# Altium schematic symbol library Pin Header WR-PHD_2.00 mm.SchLib: 63 symbols
Pins are listed as number, name and electrical type; pins without a type are passive.

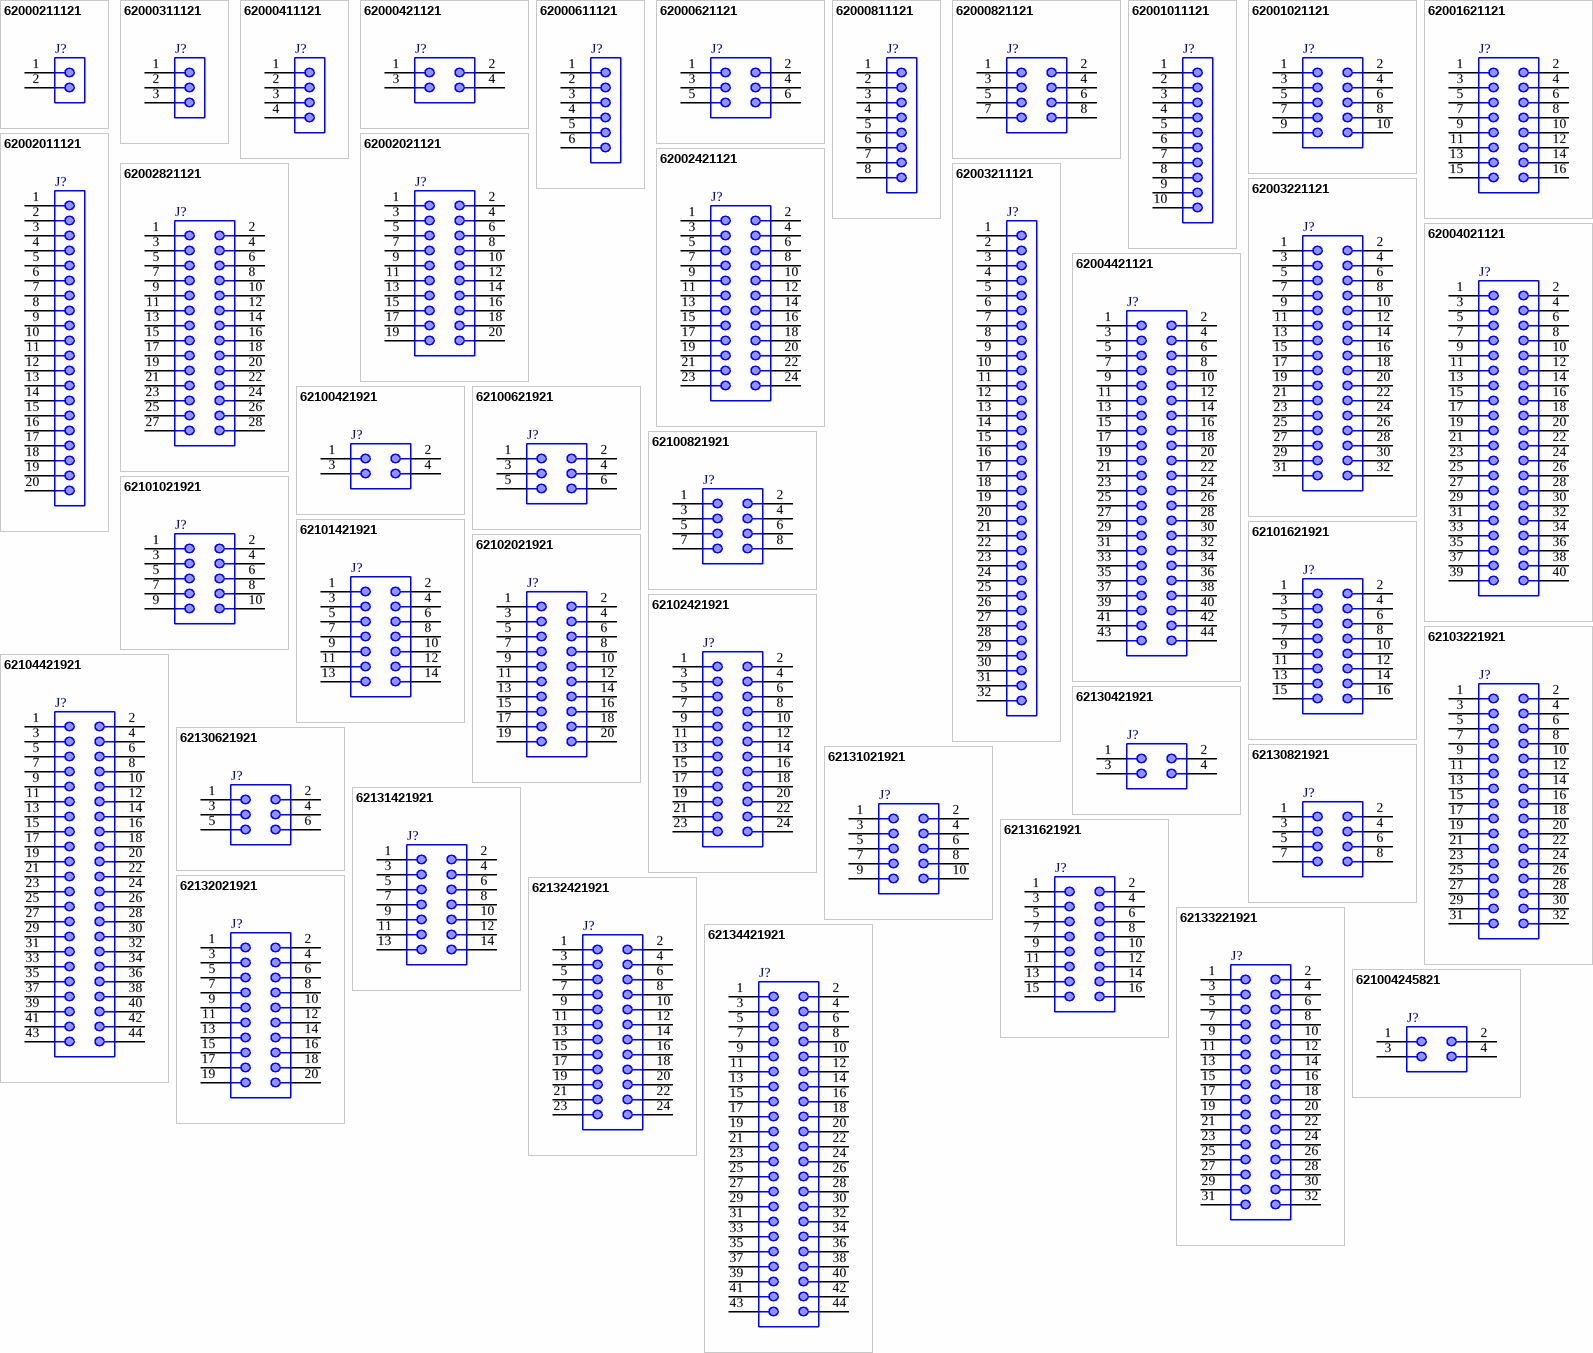
[diagram p0: symbols 62000211121 to 621004245821]

## 62000211121
designator J?
THT Vertical Pin Header WR-PHD, Pitch 2.00 mm, Single Row, 2 pins; Part Number: 62000211121; Pin Number: 2; Pitch: 2.00 mm; Gender: Male; Rated Current: 2 A; Working Voltage: 200 VAC; Withstanding Voltage: 500 VAC; Contact Resistance: 20 mOhm; ComponentLink1Description: Manufacturer; ComponentLink1URL: http://www.we-online.de; ComponentLink2Description: Datasheet; ComponentLink2URL: https://katalog.we-online.de/em/datasheet/62000211121.pdf; Published Date: August 2018; Publisher: Wurth Elektronik; Operating Temperature: -40 to 105 degC; Mounting Technology: THT; Packaging: Bag; Row Number: Single; Orientation: Vertical
footprint 62000211121
pins: 1, 2

## 62000311121
designator J?
THT Vertical Pin Header WR-PHD, Pitch 2.00 mm, Single Row, 3 pins; Part Number: 62000311121; Pin Number: 3; Pitch: 2.00 mm; Gender: Male; Rated Current: 2 A; Working Voltage: 200 VAC; Withstanding Voltage: 500 VAC; Contact Resistance: 20 mOhm; ComponentLink1Description: Manufacturer; ComponentLink1URL: http://www.we-online.de; ComponentLink2Description: Datasheet; ComponentLink2URL: https://katalog.we-online.de/em/datasheet/62000311121.pdf; Published Date: August 2018; Publisher: Wurth Elektronik; Operating Temperature: -40 to 105 degC; Mounting Technology: THT; Packaging: Bag; Row Number: Single; Orientation: Vertical
footprint 62000311121
pins: 1, 2, 3

## 62000411121
designator J?
THT Vertical Pin Header WR-PHD, Pitch 2.00 mm, Single Row, 4 pins; Part Number: 62000411121; Pin Number: 4; Pitch: 2.00 mm; Gender: Male; Rated Current: 2 A; Working Voltage: 200 VAC; Withstanding Voltage: 500 VAC; Contact Resistance: 20 mOhm; ComponentLink1Description: Manufacturer; ComponentLink1URL: http://www.we-online.de; ComponentLink2Description: Datasheet; ComponentLink2URL: https://katalog.we-online.de/em/datasheet/62000411121.pdf; Published Date: August 2018; Publisher: Wurth Elektronik; Operating Temperature: -40 to 105 degC; Mounting Technology: THT; Packaging: Bag; Row Number: Single; Orientation: Vertical
footprint 62000411121
pins: 1, 2, 3, 4

## 62000421121
designator J?
THT Vertical Pin Header WR-PHD, Pitch 2.00 mm, Dual Row, 4 pins; Part Number: 62000421121; Pin Number: 4; Pitch: 2.00 mm; Gender: Male; Rated Current: 2 A; Working Voltage: 200 VAC; Withstanding Voltage: 500 VAC; Contact Resistance: 20 mOhm; ComponentLink1Description: Manufacturer; ComponentLink1URL: http://www.we-online.de; ComponentLink2Description: Datasheet; ComponentLink2URL: https://katalog.we-online.de/em/datasheet/62000421121.pdf; Published Date: August 2018; Publisher: Wurth Elektronik; Operating Temperature: -40 to 105 degC; Mounting Technology: THT; Packaging: Bag; Row Number: Dual; Orientation: Vertical
footprint 62000421121
pins: 1, 2, 3, 4

## 62000611121
designator J?
THT Vertical Pin Header WR-PHD, Pitch 2.00 mm, Single Row, 6 pins; Part Number: 62000611121; Pin Number: 6; Pitch: 2.00 mm; Gender: Male; Rated Current: 2 A; Working Voltage: 200 VAC; Withstanding Voltage: 500 VAC; Contact Resistance: 20 mOhm; ComponentLink1Description: Manufacturer; ComponentLink1URL: http://www.we-online.de; ComponentLink2Description: Datasheet; ComponentLink2URL: https://katalog.we-online.de/em/datasheet/62000611121.pdf; Published Date: August 2018; Publisher: Wurth Elektronik; Operating Temperature: -40 to 105 degC; Mounting Technology: THT; Packaging: Bag; Row Number: Single; Orientation: Vertical
footprint 62000611121
pins: 1, 2, 3, 4, 5, 6

## 62000621121
designator J?
THT Vertical Pin Header WR-PHD, Pitch 2.00 mm, Dual Row, 6 pins; Part Number: 62000621121; Pin Number: 6; Pitch: 2.00 mm; Gender: Male; Rated Current: 2 A; Working Voltage: 200 VAC; Withstanding Voltage: 500 VAC; Contact Resistance: 20 mOhm; ComponentLink1Description: Manufacturer; ComponentLink1URL: http://www.we-online.de; ComponentLink2Description: Datasheet; ComponentLink2URL: https://katalog.we-online.de/em/datasheet/62000621121.pdf; Published Date: August 2018; Publisher: Wurth Elektronik; Operating Temperature: -40 to 105 degC; Mounting Technology: THT; Packaging: Bag; Row Number: Dual; Orientation: Vertical
footprint 62000621121
pins: 1, 2, 3, 4, 5, 6

## 62000811121
designator J?
THT Vertical Pin Header WR-PHD, Pitch 2.00 mm, Single Row, 8 pins; Part Number: 62000811121; Pin Number: 8; Pitch: 2.00 mm; Gender: Male; Rated Current: 2 A; Working Voltage: 200 VAC; Withstanding Voltage: 500 VAC; Contact Resistance: 20 mOhm; ComponentLink1Description: Manufacturer; ComponentLink1URL: http://www.we-online.de; ComponentLink2Description: Datasheet; ComponentLink2URL: https://katalog.we-online.de/em/datasheet/62000811121.pdf; Published Date: August 2018; Publisher: Wurth Elektronik; Operating Temperature: -40 to 105 degC; Mounting Technology: THT; Packaging: Bag; Row Number: Single; Orientation: Vertical
footprint 62000811121
pins: 1, 2, 3, 4, 5, 6, 7, 8

## 62000821121
designator J?
THT Vertical Pin Header WR-PHD, Pitch 2.00 mm, Dual Row, 8 pins; Part Number: 62000821121; Pin Number: 8; Pitch: 2.00 mm; Gender: Male; Rated Current: 2 A; Working Voltage: 200 VAC; Withstanding Voltage: 500 VAC; Contact Resistance: 20 mOhm; ComponentLink1Description: Manufacturer; ComponentLink1URL: http://www.we-online.de; ComponentLink2Description: Datasheet; ComponentLink2URL: https://katalog.we-online.de/em/datasheet/62000821121.pdf; Published Date: August 2018; Publisher: Wurth Elektronik; Operating Temperature: -40 to 105 degC; Mounting Technology: THT; Packaging: Bag; Row Number: Dual; Orientation: Vertical
footprint 62000821121
pins: 1, 2, 3, 4, 5, 6, 7, 8

## 62001011121
designator J?
THT Vertical Pin Header WR-PHD, Pitch 2.00 mm, Single Row, 10 pins; Part Number: 62001011121; Pin Number: 10; Pitch: 2.00 mm; Gender: Male; Rated Current: 2 A; Working Voltage: 200 VAC; Withstanding Voltage: 500 VAC; Contact Resistance: 20 mOhm; ComponentLink1Description: Manufacturer; ComponentLink1URL: http://www.we-online.de; ComponentLink2Description: Datasheet; ComponentLink2URL: https://katalog.we-online.de/em/datasheet/62001011121.pdf; Published Date: August 2018; Publisher: Wurth Elektronik; Operating Temperature: -40 to 105 degC; Mounting Technology: THT; Packaging: Bag; Row Number: Single; Orientation: Vertical
footprint 62001011121
pins: 1, 2, 3, 4, 5, 6, 7, 8, 9, 10

## 62001021121
designator J?
THT Vertical Pin Header WR-PHD, Pitch 2.00 mm, Dual Row, 10 pins; Part Number: 62001021121; Pin Number: 10; Pitch: 2.00 mm; Gender: Male; Rated Current: 2 A; Working Voltage: 200 VAC; Withstanding Voltage: 500 VAC; Contact Resistance: 20 mOhm; ComponentLink1Description: Manufacturer; ComponentLink1URL: http://www.we-online.de; ComponentLink2Description: Datasheet; ComponentLink2URL: https://katalog.we-online.de/em/datasheet/62001021121.pdf; Published Date: August 2018; Publisher: Wurth Elektronik; Operating Temperature: -40 to 105 degC; Mounting Technology: THT; Packaging: Bag; Row Number: Dual; Orientation: Vertical
footprint 62001021121
pins: 1, 2, 3, 4, 5, 6, 7, 8, 9, 10

## 62001621121
designator J?
THT Vertical Pin Header WR-PHD, Pitch 2.00 mm, Dual Row, 16 pins; Part Number: 62001621121; Pin Number: 16; Pitch: 2.00 mm; Gender: Male; Rated Current: 2 A; Working Voltage: 200 VAC; Withstanding Voltage: 500 VAC; Contact Resistance: 20 mOhm; ComponentLink1Description: Manufacturer; ComponentLink1URL: http://www.we-online.de; ComponentLink2Description: Datasheet; ComponentLink2URL: https://katalog.we-online.de/em/datasheet/62001621121.pdf; Published Date: August 2018; Publisher: Wurth Elektronik; Operating Temperature: -40 to 105 degC; Mounting Technology: THT; Packaging: Bag; Row Number: Dual; Orientation: Vertical
footprint 62001621121
pins: 1, 2, 3, 4, 5, 6, 7, 8, 9, 10, 11, 12, 13, 14, 15, 16

## 62002011121
designator J?
THT Vertical Pin Header WR-PHD, Pitch 2.00 mm, Single Row, 20 pins; Part Number: 62002011121; Pin Number: 20; Pitch: 2.00 mm; Gender: Male; Rated Current: 2 A; Working Voltage: 200 VAC; Withstanding Voltage: 500 VAC; Contact Resistance: 20 mOhm; ComponentLink1Description: Manufacturer; ComponentLink1URL: http://www.we-online.de; ComponentLink2Description: Datasheet; ComponentLink2URL: https://katalog.we-online.de/em/datasheet/62002011121.pdf; Published Date: August 2018; Publisher: Wurth Elektronik; Operating Temperature: -40 to 105 degC; Mounting Technology: THT; Packaging: Bag; Row Number: Single; Orientation: Vertical
footprint 62002011121
pins: 1, 2, 3, 4, 5, 6, 7, 8, 9, 10, 11, 12, 13, 14, 15, 16, 17, 18, 19, 20

## 62002021121
designator J?
THT Vertical Pin Header WR-PHD, Pitch 2.00 mm, Dual Row, 20 pins; Part Number: 62002021121; Pin Number: 20; Pitch: 2.00 mm; Gender: Male; Rated Current: 2 A; Working Voltage: 200 VAC; Withstanding Voltage: 500 VAC; Contact Resistance: 20 mOhm; ComponentLink1Description: Manufacturer; ComponentLink1URL: http://www.we-online.de; ComponentLink2Description: Datasheet; ComponentLink2URL: https://katalog.we-online.de/em/datasheet/62002021121.pdf; Published Date: August 2018; Publisher: Wurth Elektronik; Operating Temperature: -40 to 105 degC; Mounting Technology: THT; Packaging: Bag; Row Number: Dual; Orientation: Vertical
footprint 62002021121
pins: 1, 2, 3, 4, 5, 6, 7, 8, 9, 10, 11, 12, 13, 14, 15, 16, 17, 18, 19, 20

## 62002421121
designator J?
THT Vertical Pin Header WR-PHD, Pitch 2.00 mm, Dual Row, 24 pins; Part Number: 62002421121; Pin Number: 24; Pitch: 2.00 mm; Gender: Male; Rated Current: 2 A; Working Voltage: 200 VAC; Withstanding Voltage: 500 VAC; Contact Resistance: 20 mOhm; ComponentLink1Description: Manufacturer; ComponentLink1URL: http://www.we-online.de; ComponentLink2Description: Datasheet; ComponentLink2URL: https://katalog.we-online.de/em/datasheet/62002421121.pdf; Published Date: August 2018; Publisher: Wurth Elektronik; Operating Temperature: -40 to 105 degC; Mounting Technology: THT; Packaging: Bag; Row Number: Dual; Orientation: Vertical
footprint 62002421121
pins: 1, 2, 3, 4, 5, 6, 7, 8, 9, 10, 11, 12, 13, 14, 15, 16, 17, 18, 19, 20, 21, 22, 23, 24

## 62002821121
designator J?
THT Vertical Pin Header WR-PHD, Pitch 2.00 mm, Dual Row, 28 pins; Part Number: 62002821121; Pin Number: 28; Pitch: 2.00 mm; Gender: Male; Rated Current: 2 A; Working Voltage: 200 VAC; Withstanding Voltage: 500 VAC; Contact Resistance: 20 mOhm; ComponentLink1Description: Manufacturer; ComponentLink1URL: http://www.we-online.de; ComponentLink2Description: Datasheet; ComponentLink2URL: https://katalog.we-online.de/em/datasheet/62002821121.pdf; Published Date: August 2018; Publisher: Wurth Elektronik; Operating Temperature: -40 to 105 degC; Mounting Technology: THT; Packaging: Bag; Row Number: Dual; Orientation: Vertical
footprint 62002821121
pins: 1, 2, 3, 4, 5, 6, 7, 8, 9, 10, 11, 12, 13, 14, 15, 16, 17, 18, 19, 20, 21, 22, 23, 24, 25, 26, 27, 28

## 62003211121
designator J?
THT Vertical Pin Header WR-PHD, Pitch 2.00 mm, Single Row, 32 pins; Part Number: 62003211121; Pin Number: 32; Pitch: 2.00 mm; Gender: Male; Rated Current: 2 A; Working Voltage: 200 VAC; Withstanding Voltage: 500 VAC; Contact Resistance: 20 mOhm; ComponentLink1Description: Manufacturer; ComponentLink1URL: http://www.we-online.de; ComponentLink2Description: Datasheet; ComponentLink2URL: https://katalog.we-online.de/em/datasheet/62003211121.pdf; Published Date: August 2018; Publisher: Wurth Elektronik; Operating Temperature: -40 to 105 degC; Mounting Technology: THT; Packaging: Bag; Row Number: Single; Orientation: Vertical
footprint 62003211121
pins: 1, 2, 3, 4, 5, 6, 7, 8, 9, 10, 11, 12, 13, 14, 15, 16, 17, 18, 19, 20, 21, 22, 23, 24, 25, 26, 27, 28, 29, 30, 31, 32

## 62003221121
designator J?
THT Vertical Pin Header WR-PHD, Pitch 2.00 mm, Dual Row, 32 pins; Part Number: 62003221121; Pin Number: 32; Pitch: 2.00 mm; Gender: Male; Rated Current: 2 A; Working Voltage: 200 VAC; Withstanding Voltage: 500 VAC; Contact Resistance: 20 mOhm; ComponentLink1Description: Manufacturer; ComponentLink1URL: http://www.we-online.de; ComponentLink2Description: Datasheet; ComponentLink2URL: https://katalog.we-online.de/em/datasheet/62003221121.pdf; Published Date: August 2018; Publisher: Wurth Elektronik; Operating Temperature: -40 to 105 degC; Mounting Technology: THT; Packaging: Bag; Row Number: Dual; Orientation: Vertical
footprint 62003221121
pins: 1, 2, 3, 4, 5, 6, 7, 8, 9, 10, 11, 12, 13, 14, 15, 16, 17, 18, 19, 20, 21, 22, 23, 24, 25, 26, 27, 28, 29, 30, 31, 32

## 62004021121
designator J?
THT Vertical Pin Header WR-PHD, Pitch 2.00 mm, Dual Row, 40 pins; Part Number: 62004021121; Pin Number: 40; Pitch: 2.00 mm; Gender: Male; Rated Current: 2 A; Working Voltage: 200 VAC; Withstanding Voltage: 500 VAC; Contact Resistance: 20 mOhm; ComponentLink1Description: Manufacturer; ComponentLink1URL: http://www.we-online.de; ComponentLink2Description: Datasheet; ComponentLink2URL: https://katalog.we-online.de/em/datasheet/62004021121.pdf; Published Date: August 2018; Publisher: Wurth Elektronik; Operating Temperature: -40 to 105 degC; Mounting Technology: THT; Packaging: Bag; Row Number: Dual; Orientation: Vertical
footprint 62004021121
pins: 1, 2, 3, 4, 5, 6, 7, 8, 9, 10, 11, 12, 13, 14, 15, 16, 17, 18, 19, 20, 21, 22, 23, 24, 25, 26, 27, 28, 29, 30, 31, 32, 33, 34, 35, 36, 37, 38, 39, 40

## 62004421121
designator J?
THT Vertical Pin Header WR-PHD, Pitch 2.00 mm, Dual Row, 44 pins; Part Number: 62004421121; Pin Number: 44; Pitch: 2.00 mm; Gender: Male; Rated Current: 2 A; Working Voltage: 200 VAC; Withstanding Voltage: 500 VAC; Contact Resistance: 20 mOhm; ComponentLink1Description: Manufacturer; ComponentLink1URL: http://www.we-online.de; ComponentLink2Description: Datasheet; ComponentLink2URL: https://katalog.we-online.de/em/datasheet/62004421121.pdf; Published Date: August 2018; Publisher: Wurth Elektronik; Operating Temperature: -40 to 105 degC; Mounting Technology: THT; Packaging: Bag; Row Number: Dual; Orientation: Vertical
footprint 62004421121
pins: 1, 2, 3, 4, 5, 6, 7, 8, 9, 10, 11, 12, 13, 14, 15, 16, 17, 18, 19, 20, 21, 22, 23, 24, 25, 26, 27, 28, 29, 30, 31, 32, 33, 34, 35, 36, 37, 38, 39, 40, 41, 42, 43, 44

## 62100421921
designator J?
SMT Vertical Pin Header WR-PHD, Pitch 2.00 mm, Dual Row, 4 pins; Part Number: 62100421921; Pin Number: 4; Pitch: 2.00 mm; Gender: Male; Rated Current: 2 A; Working Voltage: 200 VAC; Withstanding Voltage: 500 VAC; Contact Resistance: 20 mOhm; ComponentLink1Description: Manufacturer; ComponentLink1URL: http://www.we-online.de; ComponentLink2Description: Datasheet; ComponentLink2URL: https://katalog.we-online.de/em/datasheet/62100421921.pdf; Published Date: August 2018; Publisher: Wurth Elektronik; Operating Temperature: -40 to 105 degC; Mounting Technology: SMT; Packaging: Tube; Row Number: Dual; Orientation: Vertical
footprint 62100421921
pins: 1, 2, 3, 4

## 62100621921
designator J?
SMT Vertical Pin Header WR-PHD, Pitch 2.00 mm, Dual Row, 6 pins; Part Number: 62100621921; Pin Number: 6; Pitch: 2.00 mm; Gender: Male; Rated Current: 2 A; Working Voltage: 200 VAC; Withstanding Voltage: 500 VAC; Contact Resistance: 20 mOhm; ComponentLink1Description: Manufacturer; ComponentLink1URL: http://www.we-online.de; ComponentLink2Description: Datasheet; ComponentLink2URL: https://katalog.we-online.de/em/datasheet/62100621921.pdf; Published Date: August 2018; Publisher: Wurth Elektronik; Operating Temperature: -40 to 105 degC; Mounting Technology: SMT; Packaging: Tube; Row Number: Dual; Orientation: Vertical
footprint 62100621921
pins: 1, 2, 3, 4, 5, 6

## 62100821921
designator J?
SMT Vertical Pin Header WR-PHD, Pitch 2.00 mm, Dual Row, 8 pins; Part Number: 62100821921; Pin Number: 8; Pitch: 2.00 mm; Gender: Male; Rated Current: 2 A; Working Voltage: 200 VAC; Withstanding Voltage: 500 VAC; Contact Resistance: 20 mOhm; ComponentLink1Description: Manufacturer; ComponentLink1URL: http://www.we-online.de; ComponentLink2Description: Datasheet; ComponentLink2URL: https://katalog.we-online.de/em/datasheet/62100821921.pdf; Published Date: August 2018; Publisher: Wurth Elektronik; Operating Temperature: -40 to 105 degC; Mounting Technology: SMT; Packaging: Tube; Row Number: Dual; Orientation: Vertical
footprint 62100821921
pins: 1, 2, 3, 4, 5, 6, 7, 8

## 62101021921
designator J?
SMT Vertical Pin Header WR-PHD, Pitch 2.00 mm, Dual Row, 10 pins; Part Number: 62101021921; Pin Number: 10; Pitch: 2.00 mm; Gender: Male; Rated Current: 2 A; Working Voltage: 200 VAC; Withstanding Voltage: 500 VAC; Contact Resistance: 20 mOhm; ComponentLink1Description: Manufacturer; ComponentLink1URL: http://www.we-online.de; ComponentLink2Description: Datasheet; ComponentLink2URL: https://katalog.we-online.de/em/datasheet/62101021921.pdf; Published Date: August 2018; Publisher: Wurth Elektronik; Operating Temperature: -40 to 105 degC; Mounting Technology: SMT; Packaging: Tube; Row Number: Dual; Orientation: Vertical
footprint 62101021921
pins: 1, 2, 3, 4, 5, 6, 7, 8, 9, 10

## 62101421921
designator J?
SMT Vertical Pin Header WR-PHD, Pitch 2.00 mm, Dual Row, 14 pins; Part Number: 62101421921; Pin Number: 14; Pitch: 2.00 mm; Gender: Male; Rated Current: 2 A; Working Voltage: 200 VAC; Withstanding Voltage: 500 VAC; Contact Resistance: 20 mOhm; ComponentLink1Description: Manufacturer; ComponentLink1URL: http://www.we-online.de; ComponentLink2Description: Datasheet; ComponentLink2URL: https://katalog.we-online.de/em/datasheet/62101421921.pdf; Published Date: August 2018; Publisher: Wurth Elektronik; Operating Temperature: -40 to 105 degC; Mounting Technology: SMT; Packaging: Tube; Row Number: Dual; Orientation: Vertical
footprint 62101421921
pins: 1, 2, 3, 4, 5, 6, 7, 8, 9, 10, 11, 12, 13, 14

## 62101621921
designator J?
SMT Vertical Pin Header WR-PHD, Pitch 2.00 mm, Dual Row, 16 pins; Part Number: 62101621921; Pin Number: 16; Pitch: 2.00 mm; Gender: Male; Rated Current: 2 A; Working Voltage: 200 VAC; Withstanding Voltage: 500 VAC; Contact Resistance: 20 mOhm; ComponentLink1Description: Manufacturer; ComponentLink1URL: http://www.we-online.de; ComponentLink2Description: Datasheet; ComponentLink2URL: https://katalog.we-online.de/em/datasheet/62101621921.pdf; Published Date: August 2018; Publisher: Wurth Elektronik; Operating Temperature: -40 to 105 degC; Mounting Technology: SMT; Packaging: Tube; Row Number: Dual; Orientation: Vertical
footprint 62101621921
pins: 1, 2, 3, 4, 5, 6, 7, 8, 9, 10, 11, 12, 13, 14, 15, 16

## 62102021921
designator J?
SMT Vertical Pin Header WR-PHD, Pitch 2.00 mm, Dual Row, 20 pins; Part Number: 62102021921; Pin Number: 20; Pitch: 2.00 mm; Gender: Male; Rated Current: 2 A; Working Voltage: 200 VAC; Withstanding Voltage: 500 VAC; Contact Resistance: 20 mOhm; ComponentLink1Description: Manufacturer; ComponentLink1URL: http://www.we-online.de; ComponentLink2Description: Datasheet; ComponentLink2URL: https://katalog.we-online.de/em/datasheet/62102021921.pdf; Published Date: August 2018; Publisher: Wurth Elektronik; Operating Temperature: -40 to 105 degC; Mounting Technology: SMT; Packaging: Tube; Row Number: Dual; Orientation: Vertical
footprint 62102021921
pins: 1, 2, 3, 4, 5, 6, 7, 8, 9, 10, 11, 12, 13, 14, 15, 16, 17, 18, 19, 20

## 62102421921
designator J?
SMT Vertical Pin Header WR-PHD, Pitch 2.00 mm, Dual Row, 24 pins; Part Number: 62102421921; Pin Number: 24; Pitch: 2.00 mm; Gender: Male; Rated Current: 2 A; Working Voltage: 200 VAC; Withstanding Voltage: 500 VAC; Contact Resistance: 20 mOhm; ComponentLink1Description: Manufacturer; ComponentLink1URL: http://www.we-online.de; ComponentLink2Description: Datasheet; ComponentLink2URL: https://katalog.we-online.de/em/datasheet/62102421921.pdf; Published Date: August 2018; Publisher: Wurth Elektronik; Operating Temperature: -40 to 105 degC; Mounting Technology: SMT; Packaging: Tube; Row Number: Dual; Orientation: Vertical
footprint 62102421921
pins: 1, 2, 3, 4, 5, 6, 7, 8, 9, 10, 11, 12, 13, 14, 15, 16, 17, 18, 19, 20, 21, 22, 23, 24

## 62103221921
designator J?
SMT Vertical Pin Header WR-PHD, Pitch 2.00 mm, Dual Row, 32 pins; Part Number: 62103221921; Pin Number: 32; Pitch: 2.00 mm; Gender: Male; Rated Current: 2 A; Working Voltage: 200 VAC; Withstanding Voltage: 500 VAC; Contact Resistance: 20 mOhm; ComponentLink1Description: Manufacturer; ComponentLink1URL: http://www.we-online.de; ComponentLink2Description: Datasheet; ComponentLink2URL: https://katalog.we-online.de/em/datasheet/62103221921.pdf; Published Date: August 2018; Publisher: Wurth Elektronik; Operating Temperature: -40 to 105 degC; Mounting Technology: SMT; Packaging: Tube; Row Number: Dual; Orientation: Vertical
footprint 62103221921
pins: 1, 2, 3, 4, 5, 6, 7, 8, 9, 10, 11, 12, 13, 14, 15, 16, 17, 18, 19, 20, 21, 22, 23, 24, 25, 26, 27, 28, 29, 30, 31, 32

## 62104421921
designator J?
SMT Vertical Pin Header WR-PHD, Pitch 2.00 mm, Dual Row, 44 pins; Part Number: 62104421921; Pin Number: 44; Pitch: 2.00 mm; Gender: Male; Rated Current: 2 A; Working Voltage: 200 VAC; Withstanding Voltage: 500 VAC; Contact Resistance: 20 mOhm; ComponentLink1Description: Manufacturer; ComponentLink1URL: http://www.we-online.de; ComponentLink2Description: Datasheet; ComponentLink2URL: https://katalog.we-online.de/em/datasheet/62104421921.pdf; Published Date: August 2018; Publisher: Wurth Elektronik; Operating Temperature: -40 to 105 degC; Mounting Technology: SMT; Packaging: Tube; Row Number: Dual; Orientation: Vertical
footprint 62104421921
pins: 1, 2, 3, 4, 5, 6, 7, 8, 9, 10, 11, 12, 13, 14, 15, 16, 17, 18, 19, 20, 21, 22, 23, 24, 25, 26, 27, 28, 29, 30, 31, 32, 33, 34, 35, 36, 37, 38, 39, 40, 41, 42, 43, 44

## 62130421921
designator J?
SMT Vertical Pin Header WR-PHD, Pitch 2.00 mm, Dual Row, 4 pins; Part Number: 62130421921; Pin Number: 4; Pitch: 2.00 mm; Gender: Male; Rated Current: 2 A; Working Voltage: 200 VAC; Withstanding Voltage: 500 VAC; Contact Resistance: 20 mOhm; ComponentLink1Description: Manufacturer; ComponentLink1URL: http://www.we-online.de; ComponentLink2Description: Datasheet; ComponentLink2URL: https://katalog.we-online.de/em/datasheet/62130421921.pdf; Published Date: August 2018; Publisher: Wurth Elektronik; Operating Temperature: -40 to 105 degC; Mounting Technology: SMT; Packaging: Tape and Reel; Row Number: Dual; Orientation: Vertical
footprint 62130421921
pins: 1, 2, 3, 4

## 62130621921
designator J?
SMT Vertical Pin Header WR-PHD, Pitch 2.00 mm, Dual Row, 6 pins; Part Number: 62130621921; Pin Number: 6; Pitch: 2.00 mm; Gender: Male; Rated Current: 2 A; Working Voltage: 200 VAC; Withstanding Voltage: 500 VAC; Contact Resistance: 20 mOhm; ComponentLink1Description: Manufacturer; ComponentLink1URL: http://www.we-online.de; ComponentLink2Description: Datasheet; ComponentLink2URL: https://katalog.we-online.de/em/datasheet/62130621921.pdf; Published Date: August 2018; Publisher: Wurth Elektronik; Operating Temperature: -40 to 105 degC; Mounting Technology: SMT; Packaging: Tape and Reel; Row Number: Dual; Orientation: Vertical
footprint 62130621921
pins: 1, 2, 3, 4, 5, 6

## 62130821921
designator J?
SMT Vertical Pin Header WR-PHD, Pitch 2.00 mm, Dual Row, 8 pins; Part Number: 62130821921; Pin Number: 8; Pitch: 2.00 mm; Gender: Male; Rated Current: 2 A; Working Voltage: 200 VAC; Withstanding Voltage: 500 VAC; Contact Resistance: 20 mOhm; ComponentLink1Description: Manufacturer; ComponentLink1URL: http://www.we-online.de; ComponentLink2Description: Datasheet; ComponentLink2URL: https://katalog.we-online.de/em/datasheet/62130821921.pdf; Published Date: August 2018; Publisher: Wurth Elektronik; Operating Temperature: -40 to 105 degC; Mounting Technology: SMT; Packaging: Tape and Reel; Row Number: Dual; Orientation: Vertical
footprint 62130821921
pins: 1, 2, 3, 4, 5, 6, 7, 8

## 62131021921
designator J?
SMT Vertical Pin Header WR-PHD, Pitch 2.00 mm, Dual Row, 10 pins; Part Number: 62131021921; Pin Number: 10; Pitch: 2.00 mm; Gender: Male; Rated Current: 2 A; Working Voltage: 200 VAC; Withstanding Voltage: 500 VAC; Contact Resistance: 20 mOhm; ComponentLink1Description: Manufacturer; ComponentLink1URL: http://www.we-online.de; ComponentLink2Description: Datasheet; ComponentLink2URL: https://katalog.we-online.de/em/datasheet/62131021921.pdf; Published Date: August 2018; Publisher: Wurth Elektronik; Operating Temperature: -40 to 105 degC; Mounting Technology: SMT; Packaging: Tape and Reel; Row Number: Dual; Orientation: Vertical
footprint 62131021921
pins: 1, 2, 3, 4, 5, 6, 7, 8, 9, 10

## 62131421921
designator J?
SMT Vertical Pin Header WR-PHD, Pitch 2.00 mm, Dual Row, 14 pins; Part Number: 62131421921; Pin Number: 14; Pitch: 2.00 mm; Gender: Male; Rated Current: 2 A; Working Voltage: 200 VAC; Withstanding Voltage: 500 VAC; Contact Resistance: 20 mOhm; ComponentLink1Description: Manufacturer; ComponentLink1URL: http://www.we-online.de; ComponentLink2Description: Datasheet; ComponentLink2URL: https://katalog.we-online.de/em/datasheet/62131421921.pdf; Published Date: August 2018; Publisher: Wurth Elektronik; Operating Temperature: -40 to 105 degC; Mounting Technology: SMT; Packaging: Tape and Reel; Row Number: Dual; Orientation: Vertical
footprint 62131421921
pins: 1, 2, 3, 4, 5, 6, 7, 8, 9, 10, 11, 12, 13, 14

## 62131621921
designator J?
SMT Vertical Pin Header WR-PHD, Pitch 2.00 mm, Dual Row, 16 pins; Part Number: 62131621921; Pin Number: 16; Pitch: 2.00 mm; Gender: Male; Rated Current: 2 A; Working Voltage: 200 VAC; Withstanding Voltage: 500 VAC; Contact Resistance: 20 mOhm; ComponentLink1Description: Manufacturer; ComponentLink1URL: http://www.we-online.de; ComponentLink2Description: Datasheet; ComponentLink2URL: https://katalog.we-online.de/em/datasheet/62131621921.pdf; Published Date: August 2018; Publisher: Wurth Elektronik; Operating Temperature: -40 to 105 degC; Mounting Technology: SMT; Packaging: Tape and Reel; Row Number: Dual; Orientation: Vertical
footprint 62131621921
pins: 1, 2, 3, 4, 5, 6, 7, 8, 9, 10, 11, 12, 13, 14, 15, 16

## 62132021921
designator J?
SMT Vertical Pin Header WR-PHD, Pitch 2.00 mm, Dual Row, 20 pins; Part Number: 62132021921; Pin Number: 20; Pitch: 2.00 mm; Gender: Male; Rated Current: 2 A; Working Voltage: 200 VAC; Withstanding Voltage: 500 VAC; Contact Resistance: 20 mOhm; ComponentLink1Description: Manufacturer; ComponentLink1URL: http://www.we-online.de; ComponentLink2Description: Datasheet; ComponentLink2URL: https://katalog.we-online.de/em/datasheet/62132021921.pdf; Published Date: August 2018; Publisher: Wurth Elektronik; Operating Temperature: -40 to 105 degC; Mounting Technology: SMT; Packaging: Tape and Reel; Row Number: Dual; Orientation: Vertical
footprint 62132021921
pins: 1, 2, 3, 4, 5, 6, 7, 8, 9, 10, 11, 12, 13, 14, 15, 16, 17, 18, 19, 20

## 62132421921
designator J?
SMT Vertical Pin Header WR-PHD, Pitch 2.00 mm, Dual Row, 24 pins; Part Number: 62132421921; Pin Number: 24; Pitch: 2.00 mm; Gender: Male; Rated Current: 2 A; Working Voltage: 200 VAC; Withstanding Voltage: 500 VAC; Contact Resistance: 20 mOhm; ComponentLink1Description: Manufacturer; ComponentLink1URL: http://www.we-online.de; ComponentLink2Description: Datasheet; ComponentLink2URL: https://katalog.we-online.de/em/datasheet/62132421921.pdf; Published Date: August 2018; Publisher: Wurth Elektronik; Operating Temperature: -40 to 105 degC; Mounting Technology: SMT; Packaging: Tape and Reel; Row Number: Dual; Orientation: Vertical
footprint 62132421921
pins: 1, 2, 3, 4, 5, 6, 7, 8, 9, 10, 11, 12, 13, 14, 15, 16, 17, 18, 19, 20, 21, 22, 23, 24

## 62133221921
designator J?
SMT Vertical Pin Header WR-PHD, Pitch 2.00 mm, Dual Row, 32 pins; Part Number: 62133221921; Pin Number: 32; Pitch: 2.00 mm; Gender: Male; Rated Current: 2 A; Working Voltage: 200 VAC; Withstanding Voltage: 500 VAC; Contact Resistance: 20 mOhm; ComponentLink1Description: Manufacturer; ComponentLink1URL: http://www.we-online.de; ComponentLink2Description: Datasheet; ComponentLink2URL: https://katalog.we-online.de/em/datasheet/62133221921.pdf; Published Date: August 2018; Publisher: Wurth Elektronik; Operating Temperature: -40 to 105 degC; Mounting Technology: SMT; Packaging: Tape and Reel; Row Number: Dual; Orientation: Vertical
footprint 62133221921
pins: 1, 2, 3, 4, 5, 6, 7, 8, 9, 10, 11, 12, 13, 14, 15, 16, 17, 18, 19, 20, 21, 22, 23, 24, 25, 26, 27, 28, 29, 30, 31, 32

## 62134421921
designator J?
SMT Vertical Pin Header WR-PHD, Pitch 2.00 mm, Dual Row, 44 pins; Part Number: 62134421921; Pin Number: 44; Pitch: 2.00 mm; Gender: Male; Rated Current: 2 A; Working Voltage: 200 VAC; Withstanding Voltage: 500 VAC; Contact Resistance: 20 mOhm; ComponentLink1Description: Manufacturer; ComponentLink1URL: http://www.we-online.de; ComponentLink2Description: Datasheet; ComponentLink2URL: https://katalog.we-online.de/em/datasheet/62134421921.pdf; Published Date: August 2018; Publisher: Wurth Elektronik; Operating Temperature: -40 to 105 degC; Mounting Technology: SMT; Packaging: Tape and Reel; Row Number: Dual; Orientation: Vertical
footprint 62134421921
pins: 1, 2, 3, 4, 5, 6, 7, 8, 9, 10, 11, 12, 13, 14, 15, 16, 17, 18, 19, 20, 21, 22, 23, 24, 25, 26, 27, 28, 29, 30, 31, 32, 33, 34, 35, 36, 37, 38, 39, 40, 41, 42, 43, 44

## 621004245821
designator J?
SMT Vertical Pin Header WR-PHD, Pitch 2.00 mm, Dual Row, 4 pins; Part Number: 621004245821; Pin Number: 4; Pitch: 2.00 mm; Gender: Male; Rated Current: 2 A; Working Voltage: 200 VAC; Withstanding Voltage: 500 VAC; Contact Resistance: 20 mOhm; ComponentLink1Description: Manufacturer; ComponentLink1URL: http://www.we-online.de; ComponentLink2Description: Datasheet; ComponentLink2URL: https://katalog.we-online.de/em/datasheet/621004245821.pdf; Published Date: August 2018; Publisher: Wurth Elektronik; Operating Temperature: -40 to 105 degC; Mounting Technology: SMT; Packaging: Tube; Row Number: Dual; Orientation: Vertical
footprint 621004245821
pins: 1, 2, 3, 4

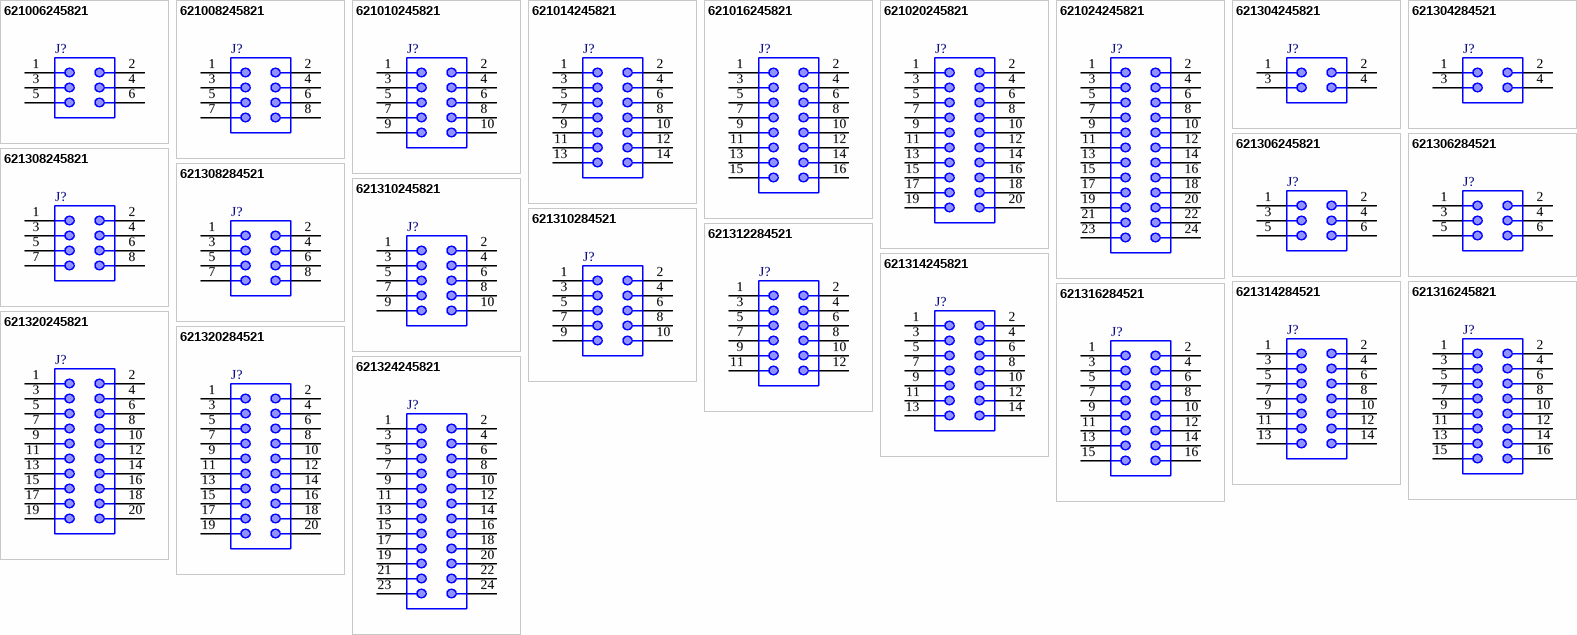
[diagram p1: symbols 621006245821 to 621324245821]

## 621006245821
designator J?
SMT Vertical Pin Header WR-PHD, Pitch 2.00 mm, Dual Row, 6 pins; Part Number: 621006245821; Pin Number: 6; Pitch: 2.00 mm; Gender: Male; Rated Current: 2 A; Working Voltage: 200 VAC; Withstanding Voltage: 500 VAC; Contact Resistance: 20 mOhm; ComponentLink1Description: Manufacturer; ComponentLink1URL: http://www.we-online.de; ComponentLink2Description: Datasheet; ComponentLink2URL: https://katalog.we-online.de/em/datasheet/621006245821.pdf; Published Date: August 2018; Publisher: Wurth Elektronik; Operating Temperature: -40 to 105 degC; Mounting Technology: SMT; Packaging: Tube; Row Number: Dual; Orientation: Vertical
footprint 621006245821
pins: 1, 2, 3, 4, 5, 6

## 621008245821
designator J?
SMT Vertical Pin Header WR-PHD, Pitch 2.00 mm, Dual Row, 8 pins; Part Number: 621008245821; Pin Number: 8; Pitch: 2.00 mm; Gender: Male; Rated Current: 2 A; Working Voltage: 200 VAC; Withstanding Voltage: 500 VAC; Contact Resistance: 20 mOhm; ComponentLink1Description: Manufacturer; ComponentLink1URL: http://www.we-online.de; ComponentLink2Description: Datasheet; ComponentLink2URL: https://katalog.we-online.de/em/datasheet/621008245821.pdf; Published Date: August 2018; Publisher: Wurth Elektronik; Operating Temperature: -40 to 105 degC; Mounting Technology: SMT; Packaging: Tube; Row Number: Dual; Orientation: Vertical
footprint 621008245821
pins: 1, 2, 3, 4, 5, 6, 7, 8

## 621010245821
designator J?
SMT Vertical Pin Header WR-PHD, Pitch 2.00 mm, Dual Row, 10 pins; Part Number: 621010245821; Pin Number: 10; Pitch: 2.00 mm; Gender: Male; Rated Current: 2 A; Working Voltage: 200 VAC; Withstanding Voltage: 500 VAC; Contact Resistance: 20 mOhm; ComponentLink1Description: Manufacturer; ComponentLink1URL: http://www.we-online.de; ComponentLink2Description: Datasheet; ComponentLink2URL: https://katalog.we-online.de/em/datasheet/621010245821.pdf; Published Date: August 2018; Publisher: Wurth Elektronik; Operating Temperature: -40 to 105 degC; Mounting Technology: SMT; Packaging: Tube; Row Number: Dual; Orientation: Vertical
footprint 621010245821
pins: 1, 2, 3, 4, 5, 6, 7, 8, 9, 10

## 621014245821
designator J?
SMT Vertical Pin Header WR-PHD, Pitch 2.00 mm, Dual Row, 14 pins; Part Number: 621014245821; Pin Number: 14; Pitch: 2.00 mm; Gender: Male; Rated Current: 2 A; Working Voltage: 200 VAC; Withstanding Voltage: 500 VAC; Contact Resistance: 20 mOhm; ComponentLink1Description: Manufacturer; ComponentLink1URL: http://www.we-online.de; ComponentLink2Description: Datasheet; ComponentLink2URL: https://katalog.we-online.de/em/datasheet/621014245821.pdf; Published Date: August 2018; Publisher: Wurth Elektronik; Operating Temperature: -40 to 105 degC; Mounting Technology: SMT; Packaging: Tube; Row Number: Dual; Orientation: Vertical
footprint 621014245821
pins: 1, 2, 3, 4, 5, 6, 7, 8, 9, 10, 11, 12, 13, 14

## 621016245821
designator J?
SMT Vertical Pin Header WR-PHD, Pitch 2.00 mm, Dual Row, 16 pins; Part Number: 621016245821; Pin Number: 16; Pitch: 2.00 mm; Gender: Male; Rated Current: 2 A; Working Voltage: 200 VAC; Withstanding Voltage: 500 VAC; Contact Resistance: 20 mOhm; ComponentLink1Description: Manufacturer; ComponentLink1URL: http://www.we-online.de; ComponentLink2Description: Datasheet; ComponentLink2URL: https://katalog.we-online.de/em/datasheet/621016245821.pdf; Published Date: August 2018; Publisher: Wurth Elektronik; Operating Temperature: -40 to 105 degC; Mounting Technology: SMT; Packaging: Tube; Row Number: Dual; Orientation: Vertical
footprint 621016245821
pins: 1, 2, 3, 4, 5, 6, 7, 8, 9, 10, 11, 12, 13, 14, 15, 16

## 621020245821
designator J?
SMT Vertical Pin Header WR-PHD, Pitch 2.00 mm, Dual Row, 20 pins; Part Number: 621020245821; Pin Number: 20; Pitch: 2.00 mm; Gender: Male; Rated Current: 2 A; Working Voltage: 200 VAC; Withstanding Voltage: 500 VAC; Contact Resistance: 20 mOhm; ComponentLink1Description: Manufacturer; ComponentLink1URL: http://www.we-online.de; ComponentLink2Description: Datasheet; ComponentLink2URL: https://katalog.we-online.de/em/datasheet/621020245821.pdf; Published Date: August 2018; Publisher: Wurth Elektronik; Operating Temperature: -40 to 105 degC; Mounting Technology: SMT; Packaging: Tube; Row Number: Dual; Orientation: Vertical
footprint 621020245821
pins: 1, 2, 3, 4, 5, 6, 7, 8, 9, 10, 11, 12, 13, 14, 15, 16, 17, 18, 19, 20

## 621024245821
designator J?
SMT Vertical Pin Header WR-PHD, Pitch 2.00 mm, Dual Row, 24 pins; Part Number: 621024245821; Pin Number: 24; Pitch: 2.00 mm; Gender: Male; Rated Current: 2 A; Working Voltage: 200 VAC; Withstanding Voltage: 500 VAC; Contact Resistance: 20 mOhm; ComponentLink1Description: Manufacturer; ComponentLink1URL: http://www.we-online.de; ComponentLink2Description: Datasheet; ComponentLink2URL: https://katalog.we-online.de/em/datasheet/621024245821.pdf; Published Date: August 2018; Publisher: Wurth Elektronik; Operating Temperature: -40 to 105 degC; Mounting Technology: SMT; Packaging: Tube; Row Number: Dual; Orientation: Vertical
footprint 621024245821
pins: 1, 2, 3, 4, 5, 6, 7, 8, 9, 10, 11, 12, 13, 14, 15, 16, 17, 18, 19, 20, 21, 22, 23, 24

## 621304245821
designator J?
SMT Vertical Pin Header WR-PHD, Pitch 2.00 mm, Dual Row, 4 pins; Part Number: 621304245821; Pin Number: 4; Pitch: 2.00 mm; Gender: Male; Rated Current: 2 A; Working Voltage: 200 VAC; Withstanding Voltage: 500 VAC; Contact Resistance: 20 mOhm; ComponentLink1Description: Manufacturer; ComponentLink1URL: http://www.we-online.de; ComponentLink2Description: Datasheet; ComponentLink2URL: https://katalog.we-online.de/em/datasheet/621304245821.pdf; Published Date: August 2018; Publisher: Wurth Elektronik; Operating Temperature: -40 to 105 degC; Mounting Technology: SMT; Packaging: Tape and Reel; Row Number: Dual; Orientation: Vertical
footprint 621304245821
pins: 1, 2, 3, 4

## 621304284521
designator J?
SMT Angled Pin Header WR-PHD, Pitch 2.00 mm, Dual Row, 4 pins; Part Number: 621304284521; Pin Number: 4; Pitch: 2.00 mm; Gender: Male; Rated Current: 2 A; Working Voltage: 200 VAC; Withstanding Voltage: 500 VAC; Contact Resistance: 20 mOhm; ComponentLink1Description: Manufacturer; ComponentLink1URL: http://www.we-online.de; ComponentLink2Description: Datasheet; ComponentLink2URL: https://katalog.we-online.de/em/datasheet/621304284521.pdf; Published Date: August 2018; Publisher: Wurth Elektronik; Operating Temperature: -40 to 105 degC; Mounting Technology: SMT; Packaging: Tape and Reel; Row Number: Dual; Orientation: Angled
footprint 621304284521
pins: 1, 2, 3, 4

## 621306245821
designator J?
SMT Vertical Pin Header WR-PHD, Pitch 2.00 mm, Dual Row, 6 pins; Part Number: 621306245821; Pin Number: 6; Pitch: 2.00 mm; Gender: Male; Rated Current: 2 A; Working Voltage: 200 VAC; Withstanding Voltage: 500 VAC; Contact Resistance: 20 mOhm; ComponentLink1Description: Manufacturer; ComponentLink1URL: http://www.we-online.de; ComponentLink2Description: Datasheet; ComponentLink2URL: https://katalog.we-online.de/em/datasheet/621306245821.pdf; Published Date: August 2018; Publisher: Wurth Elektronik; Operating Temperature: -40 to 105 degC; Mounting Technology: SMT; Packaging: Tape and Reel; Row Number: Dual; Orientation: Vertical
footprint 621306245821
pins: 1, 2, 3, 4, 5, 6

## 621306284521
designator J?
SMT Angled Pin Header WR-PHD, Pitch 2.00 mm, Dual Row, 6 pins; Part Number: 621306284521; Pin Number: 6; Pitch: 2.00 mm; Gender: Male; Rated Current: 2 A; Working Voltage: 200 VAC; Withstanding Voltage: 500 VAC; Contact Resistance: 20 mOhm; ComponentLink1Description: Manufacturer; ComponentLink1URL: http://www.we-online.de; ComponentLink2Description: Datasheet; ComponentLink2URL: https://katalog.we-online.de/em/datasheet/621306284521.pdf; Published Date: August 2018; Publisher: Wurth Elektronik; Operating Temperature: -40 to 105 degC; Mounting Technology: SMT; Packaging: Tape and Reel; Row Number: Dual; Orientation: Angled
footprint 621306284521
pins: 1, 2, 3, 4, 5, 6

## 621308245821
designator J?
SMT Vertical Pin Header WR-PHD, Pitch 2.00 mm, Dual Row, 8 pins; Part Number: 621308245821; Pin Number: 8; Pitch: 2.00 mm; Gender: Male; Rated Current: 2 A; Working Voltage: 200 VAC; Withstanding Voltage: 500 VAC; Contact Resistance: 20 mOhm; ComponentLink1Description: Manufacturer; ComponentLink1URL: http://www.we-online.de; ComponentLink2Description: Datasheet; ComponentLink2URL: https://katalog.we-online.de/em/datasheet/621308245821.pdf; Published Date: August 2018; Publisher: Wurth Elektronik; Operating Temperature: -40 to 105 degC; Mounting Technology: SMT; Packaging: Tape and Reel; Row Number: Dual; Orientation: Vertical
footprint 621308245821
pins: 1, 2, 3, 4, 5, 6, 7, 8

## 621308284521
designator J?
SMT Angled Pin Header WR-PHD, Pitch 2.00 mm, Dual Row, 8 pins; Part Number: 621308284521; Pin Number: 8; Pitch: 2.00 mm; Gender: Male; Rated Current: 2 A; Working Voltage: 200 VAC; Withstanding Voltage: 500 VAC; Contact Resistance: 20 mOhm; ComponentLink1Description: Manufacturer; ComponentLink1URL: http://www.we-online.de; ComponentLink2Description: Datasheet; ComponentLink2URL: https://katalog.we-online.de/em/datasheet/621308284521.pdf; Published Date: August 2018; Publisher: Wurth Elektronik; Operating Temperature: -40 to 105 degC; Mounting Technology: SMT; Packaging: Tape and Reel; Row Number: Dual; Orientation: Angled
footprint 621308284521
pins: 1, 2, 3, 4, 5, 6, 7, 8

## 621310245821
designator J?
SMT Vertical Pin Header WR-PHD, Pitch 2.00 mm, Dual Row, 10 pins; Part Number: 621310245821; Pin Number: 10; Pitch: 2.00 mm; Gender: Male; Rated Current: 2 A; Working Voltage: 200 VAC; Withstanding Voltage: 500 VAC; Contact Resistance: 20 mOhm; ComponentLink1Description: Manufacturer; ComponentLink1URL: http://www.we-online.de; ComponentLink2Description: Datasheet; ComponentLink2URL: https://katalog.we-online.de/em/datasheet/621310245821.pdf; Published Date: August 2018; Publisher: Wurth Elektronik; Operating Temperature: -40 to 105 degC; Mounting Technology: SMT; Packaging: Tape and Reel; Row Number: Dual; Orientation: Vertical
footprint 621310245821
pins: 1, 2, 3, 4, 5, 6, 7, 8, 9, 10

## 621310284521
designator J?
SMT Angled Pin Header WR-PHD, Pitch 2.00 mm, Dual Row, 10 pins; Part Number: 621310284521; Pin Number: 10; Pitch: 2.00 mm; Gender: Male; Rated Current: 2 A; Working Voltage: 200 VAC; Withstanding Voltage: 500 VAC; Contact Resistance: 20 mOhm; ComponentLink1Description: Manufacturer; ComponentLink1URL: http://www.we-online.de; ComponentLink2Description: Datasheet; ComponentLink2URL: https://katalog.we-online.de/em/datasheet/621310284521.pdf; Published Date: August 2018; Publisher: Wurth Elektronik; Operating Temperature: -40 to 105 degC; Mounting Technology: SMT; Packaging: Tape and Reel; Row Number: Dual; Orientation: Angled
footprint 621310284521
pins: 1, 2, 3, 4, 5, 6, 7, 8, 9, 10

## 621312284521
designator J?
SMT Angled Pin Header WR-PHD, Pitch 2.00 mm, Dual Row, 12 pins; Part Number: 621312284521; Pin Number: 12; Pitch: 2.00 mm; Gender: Male; Rated Current: 2 A; Working Voltage: 200 VAC; Withstanding Voltage: 500 VAC; Contact Resistance: 20 mOhm; ComponentLink1Description: Manufacturer; ComponentLink1URL: http://www.we-online.de; ComponentLink2Description: Datasheet; ComponentLink2URL: https://katalog.we-online.de/em/datasheet/621312284521.pdf; Published Date: August 2018; Publisher: Wurth Elektronik; Operating Temperature: -40 to 105 degC; Mounting Technology: SMT; Packaging: Tape and Reel; Row Number: Dual; Orientation: Angled
footprint 621312284521
pins: 1, 2, 3, 4, 5, 6, 7, 8, 9, 10, 11, 12

## 621314245821
designator J?
SMT Vertical Pin Header WR-PHD, Pitch 2.00 mm, Dual Row, 14 pins; Part Number: 621314245821; Pin Number: 14; Pitch: 2.00 mm; Gender: Male; Rated Current: 2 A; Working Voltage: 200 VAC; Withstanding Voltage: 500 VAC; Contact Resistance: 20 mOhm; ComponentLink1Description: Manufacturer; ComponentLink1URL: http://www.we-online.de; ComponentLink2Description: Datasheet; ComponentLink2URL: https://katalog.we-online.de/em/datasheet/621314245821.pdf; Published Date: August 2018; Publisher: Wurth Elektronik; Operating Temperature: -40 to 105 degC; Mounting Technology: SMT; Packaging: Tape and Reel; Row Number: Dual; Orientation: Vertical
footprint 621314245821
pins: 1, 2, 3, 4, 5, 6, 7, 8, 9, 10, 11, 12, 13, 14

## 621314284521
designator J?
SMT Angled Pin Header WR-PHD, Pitch 2.00 mm, Dual Row, 14 pins; Part Number: 621314284521; Pin Number: 14; Pitch: 2.00 mm; Gender: Male; Rated Current: 2 A; Working Voltage: 200 VAC; Withstanding Voltage: 500 VAC; Contact Resistance: 20 mOhm; ComponentLink1Description: Manufacturer; ComponentLink1URL: http://www.we-online.de; ComponentLink2Description: Datasheet; ComponentLink2URL: https://katalog.we-online.de/em/datasheet/621314284521.pdf; Published Date: August 2018; Publisher: Wurth Elektronik; Operating Temperature: -40 to 105 degC; Mounting Technology: SMT; Packaging: Tape and Reel; Row Number: Dual; Orientation: Angled
footprint 621314284521
pins: 1, 2, 3, 4, 5, 6, 7, 8, 9, 10, 11, 12, 13, 14

## 621316245821
designator J?
SMT Vertical Pin Header WR-PHD, Pitch 2.00 mm, Dual Row, 16 pins; Part Number: 621316245821; Pin Number: 16; Pitch: 2.00 mm; Gender: Male; Rated Current: 2 A; Working Voltage: 200 VAC; Withstanding Voltage: 500 VAC; Contact Resistance: 20 mOhm; ComponentLink1Description: Manufacturer; ComponentLink1URL: http://www.we-online.de; ComponentLink2Description: Datasheet; ComponentLink2URL: https://katalog.we-online.de/em/datasheet/621316245821.pdf; Published Date: August 2018; Publisher: Wurth Elektronik; Operating Temperature: -40 to 105 degC; Mounting Technology: SMT; Packaging: Tape and Reel; Row Number: Dual; Orientation: Vertical
footprint 621316245821
pins: 1, 2, 3, 4, 5, 6, 7, 8, 9, 10, 11, 12, 13, 14, 15, 16

## 621316284521
designator J?
SMT Angled Pin Header WR-PHD, Pitch 2.00 mm, Dual Row, 16 pins; Part Number: 621316284521; Pin Number: 16; Pitch: 2.00 mm; Gender: Male; Rated Current: 2 A; Working Voltage: 200 VAC; Withstanding Voltage: 500 VAC; Contact Resistance: 20 mOhm; ComponentLink1Description: Manufacturer; ComponentLink1URL: http://www.we-online.de; ComponentLink2Description: Datasheet; ComponentLink2URL: https://katalog.we-online.de/em/datasheet/621316284521.pdf; Published Date: August 2018; Publisher: Wurth Elektronik; Operating Temperature: -40 to 105 degC; Mounting Technology: SMT; Packaging: Tape and Reel; Row Number: Dual; Orientation: Angled
footprint 621316284521
pins: 1, 2, 3, 4, 5, 6, 7, 8, 9, 10, 11, 12, 13, 14, 15, 16

## 621320245821
designator J?
SMT Vertical Pin Header WR-PHD, Pitch 2.00 mm, Dual Row, 20 pins; Part Number: 621320245821; Pin Number: 20; Pitch: 2.00 mm; Gender: Male; Rated Current: 2 A; Working Voltage: 200 VAC; Withstanding Voltage: 500 VAC; Contact Resistance: 20 mOhm; ComponentLink1Description: Manufacturer; ComponentLink1URL: http://www.we-online.de; ComponentLink2Description: Datasheet; ComponentLink2URL: https://katalog.we-online.de/em/datasheet/621320245821.pdf; Published Date: August 2018; Publisher: Wurth Elektronik; Operating Temperature: -40 to 105 degC; Mounting Technology: SMT; Packaging: Tape and Reel; Row Number: Dual; Orientation: Vertical
footprint 621320245821
pins: 1, 2, 3, 4, 5, 6, 7, 8, 9, 10, 11, 12, 13, 14, 15, 16, 17, 18, 19, 20

## 621320284521
designator J?
SMT Angled Pin Header WR-PHD, Pitch 2.00 mm, Dual Row, 20 pins; Part Number: 621320284521; Pin Number: 20; Pitch: 2.00 mm; Gender: Male; Rated Current: 2 A; Working Voltage: 200 VAC; Withstanding Voltage: 500 VAC; Contact Resistance: 20 mOhm; ComponentLink1Description: Manufacturer; ComponentLink1URL: http://www.we-online.de; ComponentLink2Description: Datasheet; ComponentLink2URL: https://katalog.we-online.de/em/datasheet/621320284521.pdf; Published Date: August 2018; Publisher: Wurth Elektronik; Operating Temperature: -40 to 105 degC; Mounting Technology: SMT; Packaging: Tape and Reel; Row Number: Dual; Orientation: Angled
footprint 621320284521
pins: 1, 2, 3, 4, 5, 6, 7, 8, 9, 10, 11, 12, 13, 14, 15, 16, 17, 18, 19, 20

## 621324245821
designator J?
SMT Vertical Pin Header WR-PHD, Pitch 2.00 mm, Dual Row, 24 pins; Part Number: 621324245821; Pin Number: 24; Pitch: 2.00 mm; Gender: Male; Rated Current: 2 A; Working Voltage: 200 VAC; Withstanding Voltage: 500 VAC; Contact Resistance: 20 mOhm; ComponentLink1Description: Manufacturer; ComponentLink1URL: http://www.we-online.de; ComponentLink2Description: Datasheet; ComponentLink2URL: https://katalog.we-online.de/em/datasheet/621324245821.pdf; Published Date: August 2018; Publisher: Wurth Elektronik; Operating Temperature: -40 to 105 degC; Mounting Technology: SMT; Packaging: Tape and Reel; Row Number: Dual; Orientation: Vertical
footprint 621324245821
pins: 1, 2, 3, 4, 5, 6, 7, 8, 9, 10, 11, 12, 13, 14, 15, 16, 17, 18, 19, 20, 21, 22, 23, 24